# Altium footprint library Sprite.PCBLIB: 71 footprints (part 5 of 5)
Each footprint in its own frame and in the unit in brackets; x right, y up, seen from the top. Pads: shape width x height; smd on the part's side, far side on the other; paste and mask are expansions set on the pad; w line width, h text height; cw(c..) or ccw(c..) is an arc to the next point about the centre after c.
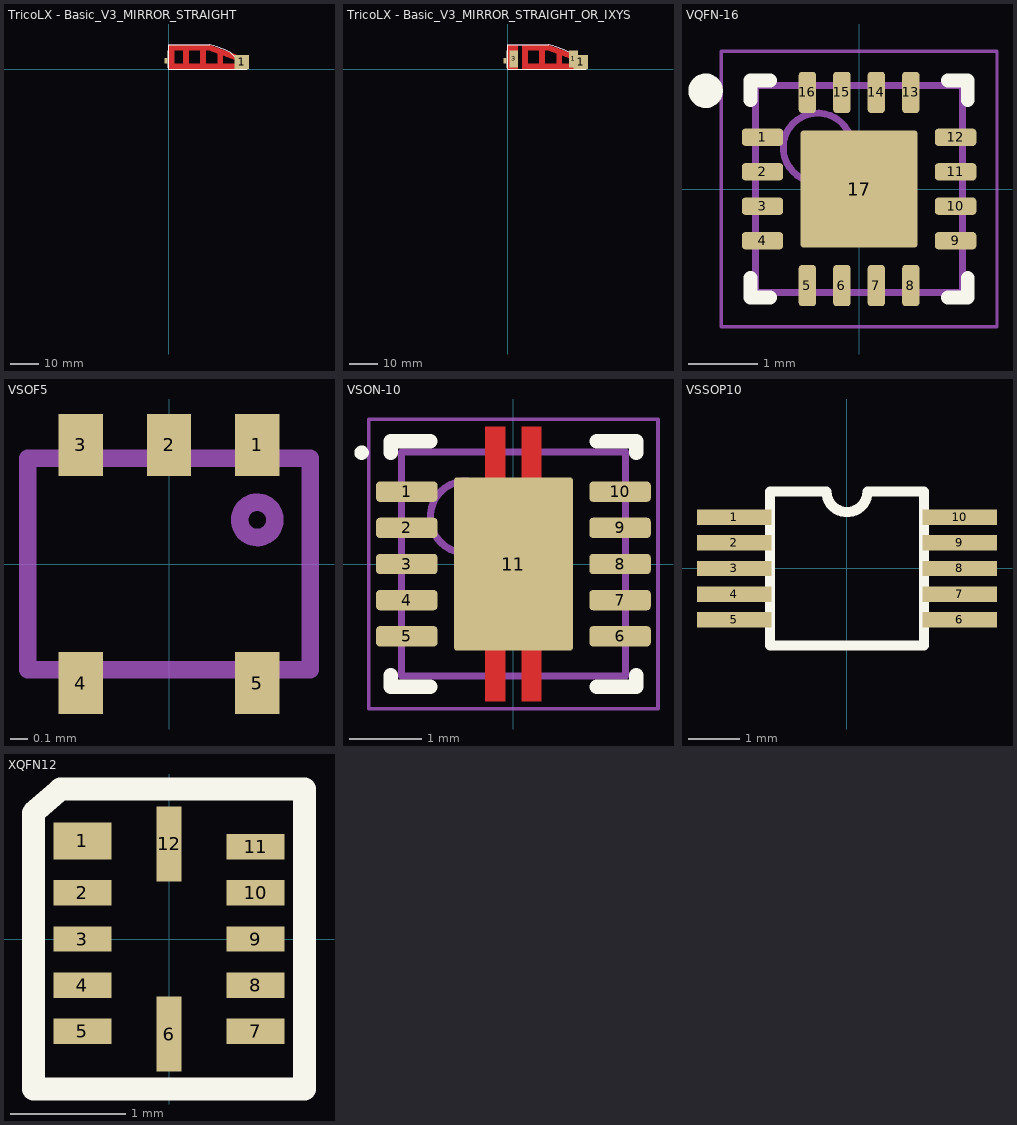
[diagram p4: the footprints below, top view; thin cyan lines are the x and y axes]

## TricoLX - Basic_V3_MIRROR_STRAIGHT [mm] "TrisolX Solar Wings"
pads (2):
  rect 5x5 smd paste-25: 1(25.5,2.5)
  rect 1x2 smd paste-2: 2(-0.95,2.951)
Top Layer:
  region: 13.803,6.62 24.035,2.896 24.719,4.776 14.487,8.5
  rectangle: 0,0 27.3,2
  rectangle: 0,6.5 14.5,8.5
  rectangle: 17,0 19,6.5
  rectangle: 11,0 13,8.5
  rectangle: 5,0 7,8.5
  rectangle: 0,0 2,8.5
Top Overlay:
  lines w0.254: -0.25,0.5 -0.25,6.5 ; 0.05,0 0.05,8.5
  lines w0.3: 0.05,0 27.35,0 21.45,5.9 ; 0.1,8.5 14.4,8.5 cw(c0.05,-42) 21.404,5.961
Top Solder:
  region: 27.588,-0.134 22.93,5.07 21.52,6.09 17.685,7.629 14.875,8.5 10.675,8.5 7.725,8.5 3.825,8.5 -0.139,8.5 -0.139,-0.134
Mechanical 1:
  lines w0.254: 14.384,8.507 cw(c0.096,-42.011) 21.45,5.95
  lines w0.3: 14.425,8.5 0.05,8.5 0.05,0 27.3,0 21.4,5.9
Mechanical 13:
  lines w0.254: 0.025,8.5 0.025,0.025 27.325,0.025 21.425,5.925 ; 14.312,8.544 cw(c0.025,-41.975) 21.378,5.987
  lines w0.3: 0.05,8.5 14.3,8.5
3D body: height 2, standoff 1.1, extent -1.5,1.9 -0.1,4
3D body: height 2, standoff 1.1, extent 0.1,0 27.3,8.5

## TricoLX - Basic_V3_MIRROR_STRAIGHT_OR_IXYS [mm] "TrisolX Solar Wings"
pads (4):
  rect 3x6 smd paste-10: 1(23,3.6) 3(2,3.6)
  rect 5x5 smd paste-25: 1(25.5,2.5)
  rect 1x2 smd paste-2: 2(-0.95,2.951)
Top Layer:
  region: 13.803,6.62 24.035,2.896 24.719,4.776 14.487,8.5
  rectangle: 5,0 27.3,2
  rectangle: 5,6.5 14.5,8.5
  rectangle: 17,0 19,6.5
  rectangle: 11,0 13,8.5
  rectangle: 5,0 7,8.5
  rectangle: 0,0 3.5,8.5
Top Overlay:
  lines w0.254: -0.25,0.5 -0.25,6.5 ; 0.05,0 0.05,8.5
  lines w0.3: 0.05,0 27.35,0 21.45,5.9 ; 0.1,8.5 14.4,8.5 cw(c0.05,-42) 21.404,5.961
Top Solder:
  region: 27.588,-0.134 22.93,5.07 21.52,6.09 17.685,7.629 14.875,8.5 10.675,8.5 7.725,8.5 3.825,8.5 -0.139,8.5 -0.139,-0.134
Mechanical 1:
  lines w0.254: 14.384,8.507 cw(c0.096,-42.011) 21.45,5.95
  lines w0.3: 14.425,8.5 0.05,8.5 0.05,0 27.3,0 21.4,5.9
Mechanical 13:
  lines w0.254: 0.025,8.5 0.025,0.025 27.325,0.025 21.425,5.925 ; 14.312,8.544 cw(c0.025,-41.975) 21.378,5.987
  lines w0.3: 0.05,8.5 14.3,8.5
3D body: height 2, standoff 1.1, extent -1.5,1.9 -0.1,4
3D body: height 2, standoff 1.1, extent 0.1,0 27.3,8.5

## VQFN-16 [mm] "QFN, 16-Leads, Body 3x3mm, Pitch 0.5mm, Thermal Pad 1.65x1.65mm"
height 1
pads (17):
  rrect40% 0.6x0.25 smd: 1(-1.4,0.75) 2(-1.4,0.25) 3(-1.4,-0.25) 4(-1.4,-0.75) 9(1.4,-0.75) 10(1.4,-0.25) 11(1.4,0.25) 12(1.4,0.75)
  rrect40% 0.25x0.6 smd: 5(-0.75,-1.4) 6(-0.25,-1.4) 7(0.25,-1.4) 8(0.75,-1.4) 13(0.75,1.4) 14(0.25,1.4) 15(-0.25,1.4) 16(-0.75,1.4)
  rrect6% 1.7x1.7 smd paste-2: 17(0,0)
Top Overlay:
  circle w0.25: c-2.225,1.425 r0.125
  lines w0.2: -1.575,-1.29 -1.575,-1.575 -1.29,-1.575 ; -1.575,1.29 -1.575,1.575 -1.29,1.575 ; 1.29,-1.575 1.575,-1.575 1.575,-1.29 ; 1.29,1.575 1.575,1.575 1.575,1.29
Top Paste:
  rectangle: 0.1,-0.8 0.8,-0.1
  rectangle: -0.8,-0.8 -0.1,-0.1
  rectangle: 0.1,0.1 0.8,0.8
  rectangle: -0.8,0.1 -0.1,0.8
Mechanical 1:
  text ".Designator" at -1.524,-0.4 h0.8
Mechanical 13:
  circle w0.1: c-0.6,0.6 r0.5
  lines w0.1: -1.5,-1.5 -1.5,1.5 1.5,1.5 1.5,-1.5 -1.5,-1.5
Mechanical 15:
  lines w0.05: -2,-2 -2,2 2,2 2,-2 -2,-2
  lines w0.1: -0.5,0 0.5,0 ; 0,-0.5 0,0.5
3D body: height 1, standoff 0, extent -1.5,-1.5 1.5,1.5

## VSOF5 [mm]
height 1.25
pads (5):
  rect 0.25x0.35 smd: 1(0.5,0.675) 2(0,0.675) 3(-0.5,0.675) 4(-0.5,-0.675) 5(0.5,-0.675)
Mechanical 13:
  circle w0.1: c0.5,0.25 r0.1
  lines w0.1: -0.8,-0.6 -0.8,0.6 0.8,0.6 0.8,-0.6 -0.8,-0.6
3D body: height 1, standoff 0, extent -0.8,-0.6 0.8,0.6

## VSON-10 [mm] "SON, 10-Leads, Body 3x3mm, Pitch 0.5mm, Thermal Pad 2.4x1.65mm, TI Recommended"
height 1
pads (11):
  rrect36% 0.85x0.28 smd paste-0.025 mask+0.07: 1(-1.475,1) 2(-1.475,0.5) 3(-1.475,0) 4(-1.475,-0.5) 5(-1.475,-1) 6(1.475,-1) 7(1.475,-0.5) 8(1.475,0) 9(1.475,0.5) 10(1.475,1)
  rrect6% 1.65x2.4 smd paste-0.825 mask+0.07: 11(0,0)
Top Layer:
  rectangle: -0.39,-1.9 -0.11,-1.092
  region: 0.39,-1.067 0.11,-1.067 0.11,-1.9 0.39,-1.9
  region: 0.39,1.9 0.11,1.9 0.11,1.041 0.39,1.041
  rectangle: -0.39,1.041 -0.11,1.9
Top Overlay:
  circle w0.1: c-2.1,1.54 r0.05
  lines w0.2: -1.7,-1.54 -1.7,-1.7 -1.15,-1.7 ; -1.7,1.54 -1.7,1.7 -1.15,1.7 ; 1.15,-1.7 1.7,-1.7 1.7,-1.54 ; 1.15,1.7 1.7,1.7 1.7,1.54
Top Paste:
  rectangle: -0.79,-1.16 -0.11,-0.11
  region: 0.79,-0.11 0.11,-0.11 0.11,-1.16 0.79,-1.16
  region: 0.79,1.16 0.11,1.16 0.11,0.11 0.79,0.11
  rectangle: -0.38,-1.88 -0.12,-1.38
  region: 0.38,-1.38 0.12,-1.38 0.12,-1.88 0.38,-1.88
  region: 0.38,1.88 0.12,1.88 0.12,1.38 0.38,1.38
  rectangle: -0.38,1.38 -0.12,1.88
  rectangle: -0.79,0.11 -0.11,1.16
Mechanical 1:
  text ".Designator" at -1.397,-1.016 h0.76
Mechanical 13:
  circle w0.1: c-0.65,0.65 r0.5
  lines w0.1: -1.55,-1.55 1.55,-1.55 1.55,1.55 -1.55,1.55 -1.55,-1.55
Mechanical 15:
  lines w0.05: -2,-2 2,-2 2,2 -2,2 -2,-2
3D body: height 1, standoff 0, extent -1.55,-1.55 1.55,1.55

## VSSOP10 [mm]
pads (10):
  rect 1.45x0.3 smd paste+0 mask+0.05: 1(-2.2,1) 2(-2.2,0.5) 3(-2.2,0) 4(-2.2,-0.5) 5(-2.2,-1) 6(2.2,-1) 7(2.2,-0.5) 8(2.2,0) 9(2.2,0.5) 10(2.2,1)
Top Overlay:
  lines w0.2: -1.5,-1.5 -1.5,1.5 -0.4,1.5 ccw(c0,1.5) 0.4,1.5 1.5,1.5 1.5,-1.5 -1.5,-1.5
3D body: height 2, standoff 1.1, extent -1.5,-1.5 1.5,1.5

## XQFN12 [mm]
pads (12):
  rect 0.5x0.32 smd paste-0.025 mask+0.062: 1(-0.75,0.85)
  rect 0.5x0.22 smd paste-0.025 mask+0.062: 2(-0.75,0.4) 3(-0.75,0) 4(-0.75,-0.4) 5(-0.75,-0.8) 7(0.75,-0.8) 8(0.75,-0.4) 9(0.75,0) 10(0.75,0.4) 11(0.75,0.8)
  rect 0.22x0.65 smd paste-0.025 mask+0.062: 6(0,-0.825) 12(0,0.825)
Top Overlay:
  lines w0.2: -1.175,-1.3 -1.175,1.094 -0.939,1.3 1.175,1.3 1.175,-1.3 -1.175,-1.3
3D body: height 1, standoff 0, extent -1.175,-1.25 1.175,1.225